# Altium schematic symbol library Swıtch.SchLib: 2 symbols
Pins are listed as number, name and electrical type; pins without a type are passive.

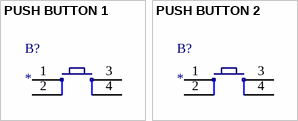
[diagram p0: symbols PUSH BUTTON 1 to PUSH BUTTON 2]

## PUSH BUTTON 1
designator B?
footprint PUSH BUTTON 1
pins: 1, 2, 3, 4

## PUSH BUTTON 2
designator B?
footprint PUSH BUTTON 2
pins: 1, 2, 3, 4